# EAGLE library part PINHD-2X6 (library pinhead)
PIN HEADER
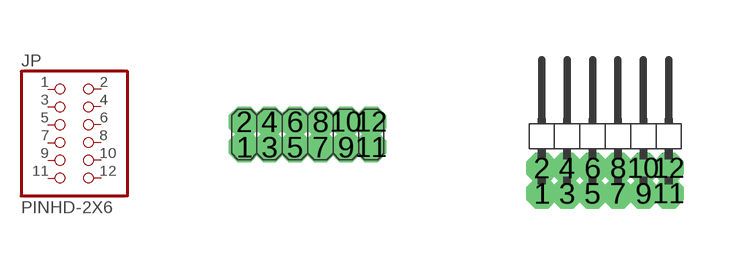
[diagram p23: symbol with the pads of 2X06; footprints 2X06, 2X06/90]

Designator prefix JP

## PINHD-2X6  [2X06]
1  1  pas
2  2  pas
3  3  pas
4  4  pas
5  5  pas
6  6  pas
7  7  pas
8  8  pas
9  9  pas
10  10  pas
11  11  pas
12  12  pas

## PINHD-2X6/90  [2X06/90]
Pads as for 2X06

## Footprint 2X06 (pad centres in mm)
PIN HEADER
drill 0.254 octagon: 1 -1.587,-0.318; 2 -1.587,0.318; 3 -0.953,-0.318; 4 -0.953,0.318; 5 -0.318,-0.318; 6 -0.318,0.318; 7 0.318,-0.318; 8 0.318,0.318; 9 0.953,-0.318; 10 0.953,0.318; 11 1.587,-0.318; 12 1.587,0.318

## Footprint 2X06/90 (pad centres in mm)
PIN HEADER
drill 0.254 octagon: 1 -1.587,-1.587; 2 -1.587,-0.953; 3 -0.953,-1.587; 4 -0.953,-0.953; 5 -0.318,-1.587; 6 -0.318,-0.953; 7 0.318,-1.587; 8 0.318,-0.953; 9 0.953,-1.587; 10 0.953,-0.953; 11 1.587,-1.587; 12 1.587,-0.953